# Altium footprint library Микросхемы_корпуса.PcbLib: 7 footprints
Each footprint in its own frame and in the unit in brackets; x right, y up, seen from the top. Pads: shape width x height; smd on the part's side, far side on the other; paste and mask are expansions set on the pad; w line width, h text height; cw(c..) or ccw(c..) is an arc to the next point about the centre after c.
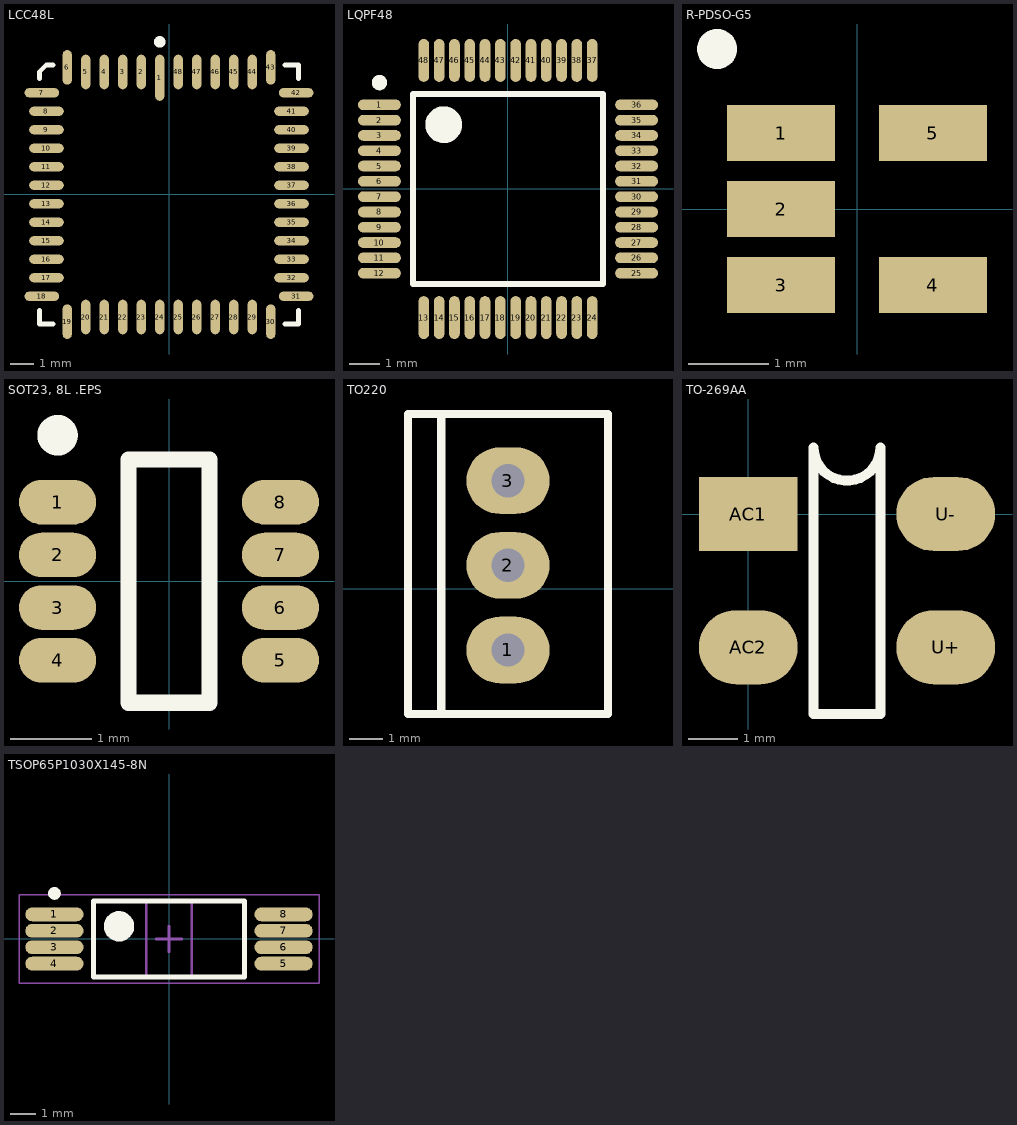
[diagram p0: the footprints below, top view; thin cyan lines are the x and y axes]

## LCC48L [mm] "LCC, 48-Pins, Body 11,00x11,00mmx1,50mm, Pitch 0,80mm, IPC High Density"
height 1.5
pads (48):
  oval 0.4x2 smd: 1(-0.4,5.05)
  oval 0.4x1.5 smd: 2(-1.2,5.3) 3(-2,5.3) 4(-2.8,5.3) 5(-3.6,5.3) 6(-4.4,5.5) 19(-4.4,-5.5) 20(-3.6,-5.3) 21(-2.8,-5.3) 22(-2,-5.3) 23(-1.2,-5.3) 24(-0.4,-5.3) 25(0.4,-5.3) 26(1.2,-5.3) 27(2,-5.3) 28(2.8,-5.3) 29(3.6,-5.3) 30(4.4,-5.5) 43(4.4,5.5) 44(3.6,5.3) 45(2.8,5.3) 46(2,5.3) 47(1.2,5.3) 48(0.4,5.3)
  oval 1.5x0.4 smd: 7(-5.5,4.4) 8(-5.3,3.6) 9(-5.3,2.8) 10(-5.3,2) 11(-5.3,1.2) 12(-5.3,0.4) 13(-5.3,-0.4) 14(-5.3,-1.2) 15(-5.3,-2) 16(-5.3,-2.8) 17(-5.3,-3.6) 18(-5.5,-4.4) 31(5.5,-4.4) 32(5.3,-3.6) 33(5.3,-2.8) 34(5.3,-2) 35(5.3,-1.2) 36(5.3,-0.4) 37(5.3,0.4) 38(5.3,1.2) 39(5.3,2) 40(5.3,2.8) 41(5.3,3.6) 42(5.5,4.4)
Top Overlay:
  circle w0.25: c-0.4,6.6 r0.125
  lines w0.2: -5.6,-5 -5.6,-5.6 -5,-5.6 ; -5.6,5 -5.6,5.3 -5.3,5.6 -5,5.6 ; 5,-5.6 5.6,-5.6 5.6,-5 ; 5,5.6 5.6,5.6 5.6,5

## LQPF48 [mm] "TSQFP, 48-Leads, Body 7,00x7,00mm, Pitch 0,50mm, IPC Medium Density"
height 1.6
pads (48):
  oval 1.4x0.35 smd: 1(-4.2,2.75) 2(-4.2,2.25) 3(-4.2,1.75) 4(-4.2,1.25) 5(-4.2,0.75) 6(-4.2,0.25) 7(-4.2,-0.25) 8(-4.2,-0.75) 9(-4.2,-1.25) 10(-4.2,-1.75) 11(-4.2,-2.25) 12(-4.2,-2.75) 25(4.2,-2.75) 26(4.2,-2.25) 27(4.2,-1.75) 28(4.2,-1.25) 29(4.2,-0.75) 30(4.2,-0.25) 31(4.2,0.25) 32(4.2,0.75) 33(4.2,1.25) 34(4.2,1.75) 35(4.2,2.25) 36(4.2,2.75)
  oval 0.35x1.4 smd: 13(-2.75,-4.2) 14(-2.25,-4.2) 15(-1.75,-4.2) 16(-1.25,-4.2) 17(-0.75,-4.2) 18(-0.25,-4.2) 19(0.25,-4.2) 20(0.75,-4.2) 21(1.25,-4.2) 22(1.75,-4.2) 23(2.25,-4.2) 24(2.75,-4.2) 37(2.75,4.2) 38(2.25,4.2) 39(1.75,4.2) 40(1.25,4.2) 41(0.75,4.2) 42(0.25,4.2) 43(-0.25,4.2) 44(-0.75,4.2) 45(-1.25,4.2) 46(-1.75,4.2) 47(-2.25,4.2) 48(-2.75,4.2)
Top Overlay:
  circle w0.25: c-4.2,3.475 r0.125
  circle w0.6: c-2.1,2.1 r0.3
  lines w0.2: -3.1,-3.1 -3.1,3.1 3.1,3.1 3.1,-3.1 -3.1,-3.1

## R-PDSO-G5 [mm] "small-outline SOT23 package"
height 1.45
pads (5):
  rect 1.35x0.7 smd: 1(-0.95,0.95) 2(-0.95,0) 3(-0.95,-0.95) 4(0.95,-0.95) 5(0.95,0.95)
Top Overlay:
  circle w0.25: c-1.75,2 r0.125

## SOT23, 8L .EPS [mm] "SOT23, 8L .EPS"
height 1.45
pads (8):
  oval 0.95x0.55 smd: 1(-1.375,0.975) 2(-1.375,0.325) 3(-1.375,-0.325) 4(-1.375,-0.975) 5(1.375,-0.975) 6(1.375,-0.325) 7(1.375,0.325) 8(1.375,0.975)
Top Overlay:
  circle w0.25: c-1.375,1.8 r0.125
  lines w0.2: -0.5,-1.5 -0.5,1.5 0.5,1.5 0.5,-1.5 -0.5,-1.5

## TO220 [mm] "TO220 вертикально"
pads (3):
  oval 2.5x2 hole 1: 1(219.5,-1.83) 2(219.5,0.71) 3(219.5,3.25)
Top Overlay:
  lines w0.254: 217.5,-3.75 217.5,5.25 ; 216.5,-3.75 216.5,5.25 222.5,5.25 222.5,-3.75 216.5,-3.75

## TO-269AA [mm] "Под MB2S, MB4S, MB6S"
pads (4):
  rect 2x1.5 smd: AC1(0,0)
  oval 2x1.5 smd: AC2(0,-2.7) U+(4,-2.7) U-(4,0)
Top Overlay:
  lines w0.2: 1.325,-4.05 2.675,-4.05 2.675,1.35 cw(c2,1.35) 1.325,1.35 1.325,-4.05

## TSOP65P1030X145-8N [mm] "TSOP, 8-Leads, Body 2,90x1,63mm, Pitch 0,65mm, IPC Medium Density"
height 1.45
pads (8):
  oval 2.3x0.55 smd: 1(-4.525,0.975) 2(-4.525,0.325) 3(-4.525,-0.325) 4(-4.525,-0.975) 5(4.525,-0.975) 6(4.525,-0.325) 7(4.525,0.325) 8(4.525,0.975)
Top Overlay:
  circle w0.6: c-1.975,0.5 r0.3
  circle w0.25: c-4.525,1.8 r0.125
  lines w0.2: -2.975,-1.5 2.975,-1.5 2.975,1.5 -2.975,1.5 -2.975,-1.5
Mechanical 13:
  lines w0.1: -0.9,-1.5 0.9,-1.5 0.9,1.5 -0.9,1.5 -0.9,-1.5
Mechanical 15:
  lines w0.05: -5.925,-1.75 5.925,-1.75 5.925,1.75 -5.925,1.75 -5.925,-1.75
  lines w0.1: -0.5,0 0.5,0 ; 0,-0.5 0,0.5
3D body: height 1.45, standoff 0.15, extent -0.9,-1.5 0.9,1.5